# EAGLE library part DS34C86 (library Radicon)
Quad CMOS diff. line receiver
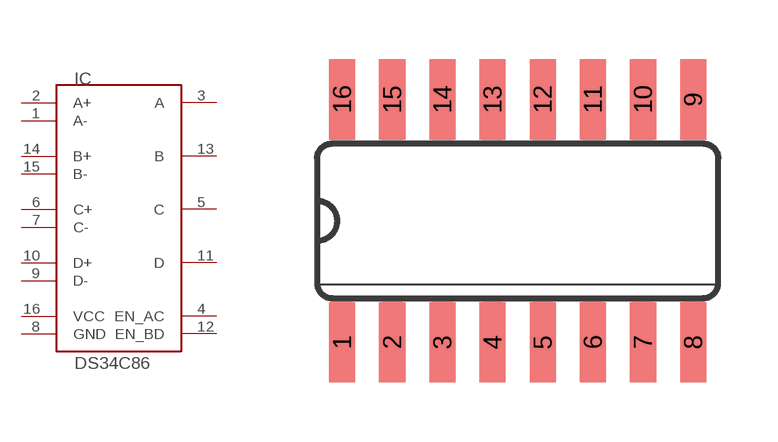
[diagram p23: symbol with the pads of SO16; footprint SO16]

Designator prefix IC

## DS34C86  [SO16]
1  A-  in
2  A+  in
3  A  out
4  EN_AC  in
5  C  out
6  C+  in
7  C-  in
8  GND  pwr
9  D-  in
10  D+  in
11  D  out
12  EN_BD  in
13  B  out
14  B+  in
15  B-  in
16  VCC  pwr

## Footprint SO16 (pad centres in mm)
Small Outline package 150 mil
smd 0.66 x 2.032: 1 -4.445,-3.073; 2 -3.175,-3.073; 3 -1.905,-3.073; 4 -0.635,-3.073; 5 0.635,-3.073; 6 1.905,-3.073; 7 3.175,-3.073; 8 4.445,-3.073; 9 4.445,3.073; 10 3.175,3.073; 11 1.905,3.073; 12 0.635,3.073; 13 -0.635,3.073; 14 -1.905,3.073; 15 -3.175,3.073; 16 -4.445,3.073